# Altium footprint library Changzhou Amass Lithium Battery Connector.PcbLib: 17 footprints (part 2 of 2)
Each footprint in its own frame and in the unit in brackets; x right, y up, seen from the top. Pads: shape width x height; smd on the part's side, far side on the other; paste and mask are expansions set on the pad; w line width, h text height; cw(c..) or ccw(c..) is an arc to the next point about the centre after c.
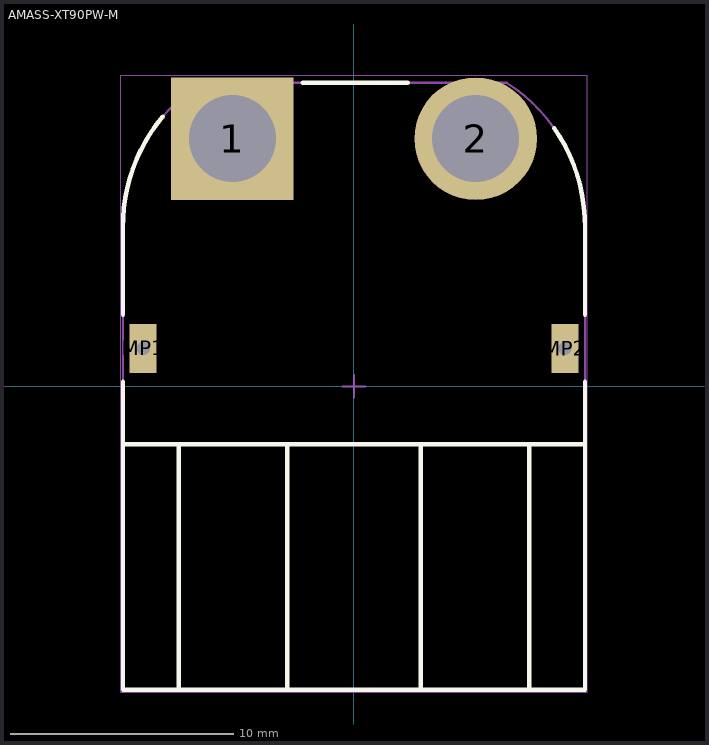
[diagram p1: the footprint, top view; thin cyan lines are the x and y axes]

## AMASS-XT90PW-M [mm] "THD, 2-Leads, Body 20.8x27.1mm, Pitch 10.9mm"
height 10.2
pads (4):
  rect 5.5x5.5 hole 3.9: 1(-5.45,11.1)
  round 5.5 hole 3.9: 2(5.45,11.1)
  rect 1.2x2.2 hole 0.6 square: MP1(-9.45,1.7) MP2(9.45,1.7)
Top Overlay:
  lines w0.2: -10.35,-2.6 10.35,-2.6 ; -10.35,0.2 -10.35,-13.6 10.35,-13.6 10.35,0.2 ; -10.35,3.2 -10.35,7.1 ; -10.35,7.1 cw(c-2.728,7.188) -8.567,12.088 ; -7.85,-13.6 -7.85,-2.6 ; -3,-13.6 -3,-2.6 ; -2.3,13.6 2.4,13.6 ; 3,-13.6 3,-2.6 ; 7.85,-13.6 7.85,-2.6 ; 8.972,11.56 cw(c2.728,7.188) 10.35,7.1 ; 10.35,3.2 10.35,7.1
Mechanical 13:
  lines w0.1: 10.35,-13.6 -10.35,-13.6 -10.35,7.1 cw(c-2.728,7.188) -6.85,13.6 6.85,13.6 cw(c2.728,7.188) 10.35,7.1 10.35,-13.6
Mechanical 15:
  lines w0.05: -10.45,-13.7 -10.45,13.95 10.45,13.95 10.45,-13.7 -10.45,-13.7
  lines w0.1: -0.5,0 0.5,0 ; 0,-0.5 0,0.5
3D body "XT90PW-M.STEP": height 10.1, standoff -2.7, extent -10.35,-13.6 10.35,13.6